# Altium footprint library Relay.PcbLib: 12 footprints
Each footprint in its own frame and in the unit in brackets; x right, y up, seen from the top. Pads: shape width x height; smd on the part's side, far side on the other; paste and mask are expansions set on the pad; w line width, h text height; cw(c..) or ccw(c..) is an arc to the next point about the centre after c.
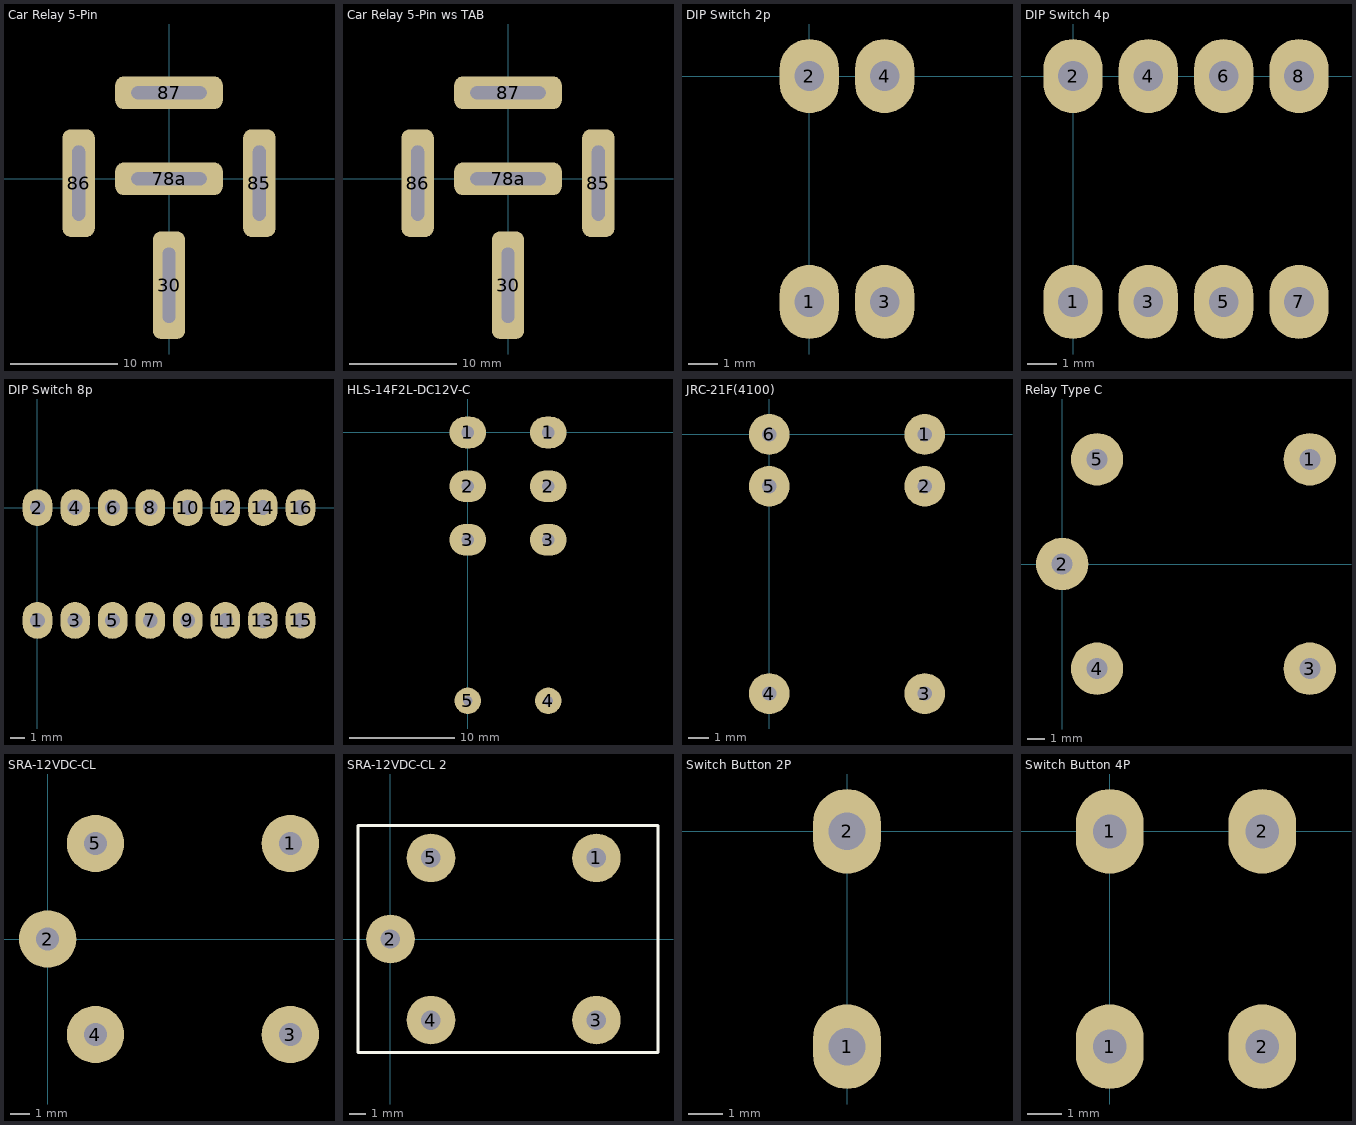
[diagram p0: the footprints below, top view; thin cyan lines are the x and y axes]

## Car Relay 5-Pin [mm]
pads (5):
  rrect50% 3x10 hole 1.2 slot 7 at 90 deg: 30(0,-9.9) 85(8.4,-0.4) 86(-8.4,-0.4)
  rrect50% 10x3 hole 1.2 slot 7 at 0 deg: 78a(0,0) 87(0,8)
3D body: height 27.4, standoff -14.15, extent -14.389,-19.206 14.389,11.689

## Car Relay 5-Pin ws TAB [mm]
pads (5):
  rrect50% 3x10 hole 1.2 slot 7 at 90 deg: 30(0,-9.9) 85(8.4,-0.4) 86(-8.4,-0.4)
  rrect50% 10x3 hole 1.2 slot 7 at 0 deg: 78a(0,0) 87(0,8)
3D body: height 44.21, standoff -14.15, extent -14.389,-20.451 14.389,11.689

## DIP Switch 2p [mm]
pads (4):
  oval 2x2.5 hole 1: 1(0,-7.62) 2(0,0) 3(2.54,-7.62) 4(2.54,0)
3D body: height 7, standoff -3.7, extent -1.755,-8.775 4.325,1.125

## DIP Switch 4p [mm]
pads (8):
  oval 2x2.5 hole 1: 1(0,-7.62) 2(0,0) 3(2.54,-7.62) 4(2.54,0) 5(5.08,-7.62) 6(5.08,0) 7(7.62,-7.62) 8(7.62,0)
3D body: height 7, standoff -3.7, extent -1.77,-8.76 9.39,1.14

## DIP Switch 8p [mm]
pads (16):
  oval 2x2.5 hole 1: 1(0,-7.62) 2(0,0) 3(2.54,-7.62) 4(2.54,0) 5(5.08,-7.62) 6(5.08,0) 7(7.62,-7.62) 8(7.62,0) 9(10.16,-7.62) 10(10.16,0) 11(12.7,-7.62) 12(12.7,0) 13(15.24,-7.62) 14(15.24,0) 15(17.78,-7.62) 16(17.78,0)
3D body: height 7, standoff -3.7, extent -1.75,-8.775 19.57,1.125

## HLS-14F2L-DC12V-C [mm]
height 20.5
pads (8):
  oval 3.5x3 hole 1.2: 1(0,0) 1(7.62,0) 2(0,-5.08) 2(7.62,-5.08) 3(0,-10.16) 3(7.62,-10.16)
  round 2.5 hole 0.9: 4(7.62,-25.4) 5(0,-25.4)
3D body: height 15.5, standoff -4, extent -2.35,-28.2 10.15,0.8

## JRC-21F(4100) [mm]
height 11.2
pads (6):
  round 2 hole 0.7: 1(7.62,0) 2(7.62,-2.54) 3(7.62,-12.7) 4(0,-12.7) 5(0,-2.54) 6(0,0)
3D body: height 11.2, standoff -3.2, extent -1.45,-14.05 9.05,1.45

## Relay Type C [mm]
height 13
pads (5):
  round 3 hole 1.2: 1(14.2,6) 2(0,0) 3(14.2,-6) 4(2,-6) 5(2,6)
3D body: height 15, standoff -3, extent -1.75,-7.95 17.75,7.95

## SRA-12VDC-CL [mm]
height 13
pads (5):
  round 3 hole 1.2: 1(12.7,5) 2(0,0) 3(12.7,-5) 4(2.5,-5) 5(2.5,5)
3D body: height 15, standoff -2, extent -3,-8 17,8

## SRA-12VDC-CL 2 [mm]
height 13
pads (5):
  round 3 hole 1.2: 1(12.7,5) 2(0,0) 3(12.7,-5) 4(2.5,-5) 5(2.5,5)
Top Overlay:
  lines w0.2: -2,-7 16.5,-7 16.5,7 -2,7 -2,-7

## Switch Button 2P [mm]
pads (2):
  oval 2x2.5 hole 1.1: 1(0,-6.35) 2(0,0)
3D body: height 5, standoff -3.5, extent -1.75,-6.989 1.75,0.689

## Switch Button 4P [mm]
pads (4):
  oval 2x2.5 hole 1: 1(0,-6.35) 1(0,0) 2(4.5,-6.35) 2(4.5,0)
3D body: height 4.9, standoff -3.59, extent -0.725,-7.018 5.275,0.95